# EAGLE library part MPU9255 (library mpu9255-10dof)
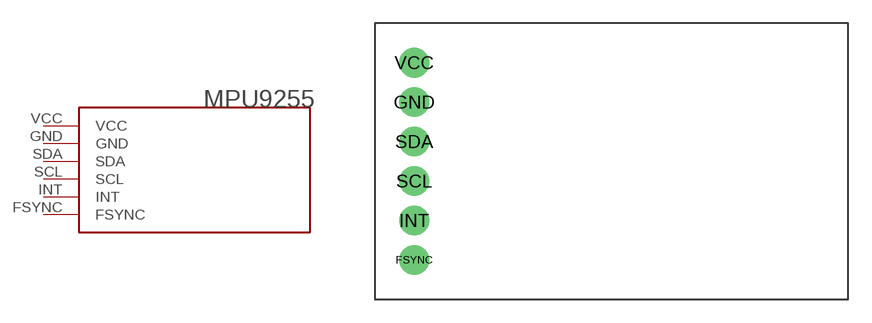
[diagram p0: symbol with the pads of MPU9255; footprint MPU9255]

Designator prefix -

## MPU9255  [MPU9255]
FSYNC  FSYNC
GND  GND
INT  INT
SCL  SCL
SDA  SDA
VCC  VCC

## Footprint MPU9255 (pad centres in mm)
drill 1.27: FSYNC -8.89,-10.16; GND -8.89,0; INT -8.89,-7.62; SCL -8.89,-5.08; SDA -8.89,-2.54; VCC -8.89,2.54